# EAGLE library part ESP32-C3-DEVKITC-02 (library GoBabyGoControleBordLib)
Check availability <https://pricing.snapeda.com/parts/ESP32-C3-DevKitC-02/Espressif%20Systems/view-part?ref=eda>
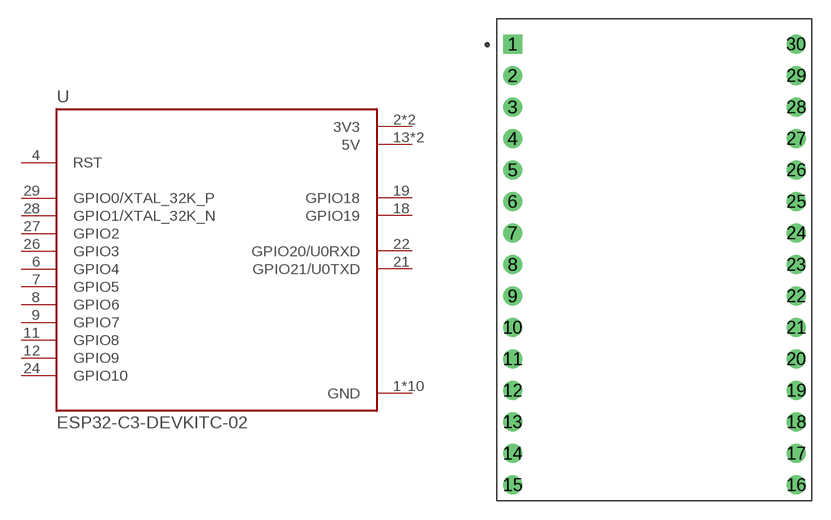
[diagram p1: symbol with the pads of XCVR_ESP32-C3-DEVKITC-02; footprint XCVR_ESP32-C3-DEVKITC-02]

Designator prefix U

## ESP32-C3-DEVKITC-02 (AVAILABILITY: In Stock; CHECK_PRICES: https://www.snapeda.com/parts/ESP32-C3-DevKitC-02/Espressif+Systems/view-part/?ref=eda; DESCRIPTION: Development Boards & Kits - Wireless (Engineering Samples) ESP32-C3 General-Purpose Development Board, embeds ESP32-C3-WROOM-02, 4 MB Flash, with Pin Header; MF: Espressif Systems; MP: ESP32-C3-DevKitC-02; PACKAGE: None; PRICE: None; PURCHASE-URL: https://www.snapeda.com/api/url_track_click_mouser/?unipart_id=5812307&manufacturer=Espressif Systems&part_name=ESP32-C3-DevKitC-02&search_term=None; SNAPEDA_LINK: https://www.snapeda.com/parts/ESP32-C3-DevKitC-02/Espressif+Systems/view-part/?ref=snap)  [XCVR_ESP32-C3-DEVKITC-02]
1  GND  pwr
2  3V3  pwr
3  3V3  pwr
4  RST  in
5  GND  pwr
6  GPIO4
7  GPIO5
8  GPIO6
9  GPIO7
10  GND  pwr
11  GPIO8
12  GPIO9
13  5V  pwr
14  5V  pwr
15  GND  pwr
16  GND  pwr
17  GND  pwr
18  GPIO19
19  GPIO18
20  GND  pwr
21  GPIO21/U0TXD
22  GPIO20/U0RXD
23  GND  pwr
24  GPIO10
25  GND  pwr
26  GPIO3
27  GPIO2
28  GPIO1/XTAL_32K_N
29  GPIO0/XTAL_32K_P
30  GND  pwr

## Footprint XCVR_ESP32-C3-DEVKITC-02 (pad centres in mm)
drill 1.02 square: 1 -11.43,17.392
drill 1.02: 2 -11.43,14.852; 3 -11.43,12.312; 4 -11.43,9.772; 5 -11.43,7.232; 6 -11.43,4.692; 7 -11.43,2.152; 8 -11.43,-0.388; 9 -11.43,-2.928; 10 -11.43,-5.468; 11 -11.43,-8.008; 12 -11.43,-10.548; 13 -11.43,-13.088; 14 -11.43,-15.628; 15 -11.43,-18.168; 16 11.43,-18.168; 17 11.43,-15.628; 18 11.43,-13.088; 19 11.43,-10.548; 20 11.43,-8.008; 21 11.43,-5.468; 22 11.43,-2.928; 23 11.43,-0.388; 24 11.43,2.152; 25 11.43,4.692; 26 11.43,7.232; 27 11.43,9.772; 28 11.43,12.312; 29 11.43,14.852; 30 11.43,17.392